# Altium footprint library SOT65P205X110-3N_DMG1012UW-7.PcbLib: 1 footprints
Each footprint in its own frame and in the unit in brackets; x right, y up, seen from the top. Pads: shape width x height; smd on the part's side, far side on the other; paste and mask are expansions set on the pad; w line width, h text height; cw(c..) or ccw(c..) is an arc to the next point about the centre after c.
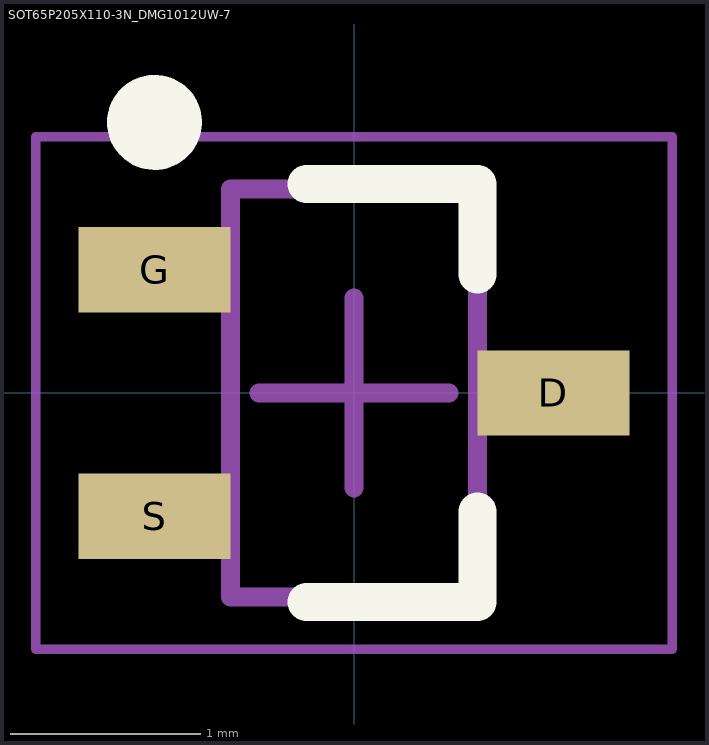
[diagram p0: the footprint, top view; thin cyan lines are the x and y axes]

## SOT65P205X110-3N_DMG1012UW-7 [mm] "SOT23, 3-Leads, Body 1.97x2.05mm, Pitch 0.65mm, IPC Medium Density"
height 1.1
pads (3):
  rect 0.8x0.45 smd: D(1.05,0) G(-1.05,0.65) S(-1.05,-0.65)
Top Overlay:
  circle w0.25: c-1.05,1.425 r0.125
  lines w0.2: -0.25,-1.1 0.65,-1.1 0.65,-0.625 ; -0.25,1.1 0.65,1.1 0.65,0.625
Mechanical 13:
  lines w0.1: -0.65,-1.075 -0.65,1.075 0.65,1.075 0.65,-1.075 -0.65,-1.075
Mechanical 15:
  lines w0.05: -1.675,-1.35 -1.675,1.35 1.675,1.35 1.675,-1.35 -1.675,-1.35
  lines w0.1: -0.5,0 0.5,0 ; 0,-0.5 0,0.5
3D body "SOT65P205X110-3N_DMG1012UW-7.step": height 1.1, standoff 0, extent -1.05,-1.075 1.05,1.075